# Altium footprint library Axial 0.8.PcbLib: 1 footprints
Each footprint in its own frame and in the unit in brackets; x right, y up, seen from the top. Pads: shape width x height; smd on the part's side, far side on the other; paste and mask are expansions set on the pad; w line width, h text height; cw(c..) or ccw(c..) is an arc to the next point about the centre after c.
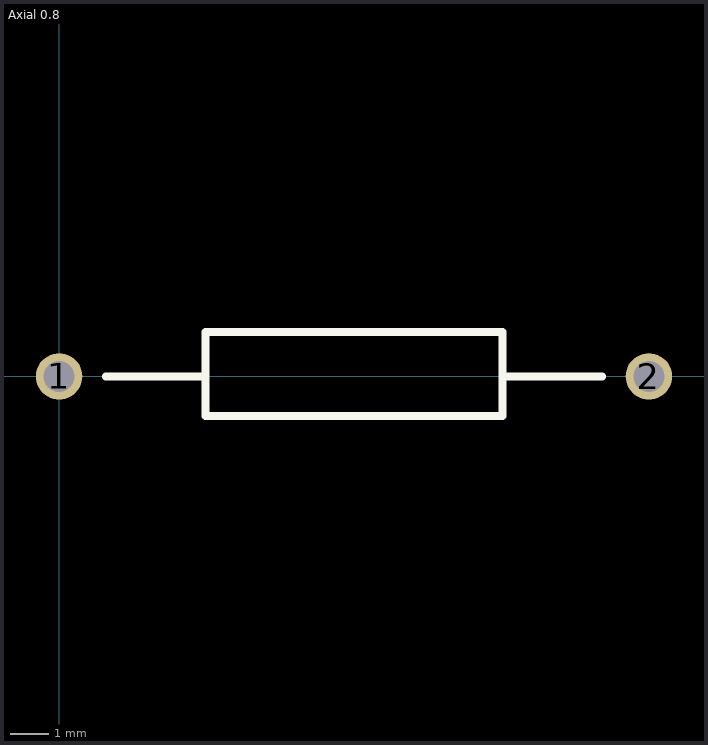
[diagram p0: the footprint, top view; thin cyan lines are the x and y axes]

## Axial 0.8 [mm]
pads (2):
  round 1.2 hole 0.8: 1(0,0) 2(15.2,0)
Top Overlay:
  lines w0.2: 1.2,0 3.775,0 ; 11.425,0 14,0 ; 3.775,0 3.775,-1.016 11.425,-1.016 11.425,1.143 3.775,1.143 3.775,0